# Altium schematic symbol library SAT3M3232042TR.SchLib: 1 symbol
Pins are listed as number, name and electrical type; pins without a type are passive.

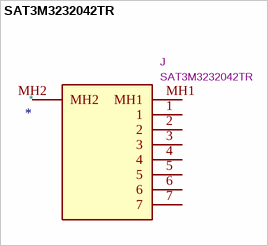
[diagram p0: symbol SAT3M3232042TR]

## SAT3M3232042TR
designator *  value SAT3M3232042TR  Reference: J
Manufacturer_Name: Amphenol Communications Solutions; ki_description: SATA Connectors, Storage & Server System, Plug, Surface Mount, 7 Positions.; Footprint: SAT3M3232042TR; Datasheet: https://cdn.amphenol-cs.com/media/wysiwyg/files/drawing/sat3m323203xxx.pdf; Height: 8.55; Manufacturer_Part_Number: SAT3M3232042TR; Mouser Part Number: 523-SAT3M3232042TR; Mouser Price/Stock: https://www.mouser.co.uk/ProductDetail/Amphenol-FCI/SAT3M3232042TR?qs=vLWxofP3U2zYTvrDpHb8Yw%3D%3D; Arrow Part Number: SAT3M3232042TR; Arrow Price/Stock: https://www.arrow.com/en/products/sat3m3232042tr/amphenol-fci?utm_currency=USD&region=europe
pins: 1, 2, 3, 4, 5, 6, 7, MH1, MH2